# Altium footprint library Solder_Bridge_ Jumpers.PcbLib: 3 footprints
Each footprint in its own frame and in the unit in brackets; x right, y up, seen from the top. Pads: shape width x height; smd on the part's side, far side on the other; paste and mask are expansions set on the pad; w line width, h text height; cw(c..) or ccw(c..) is an arc to the next point about the centre after c.
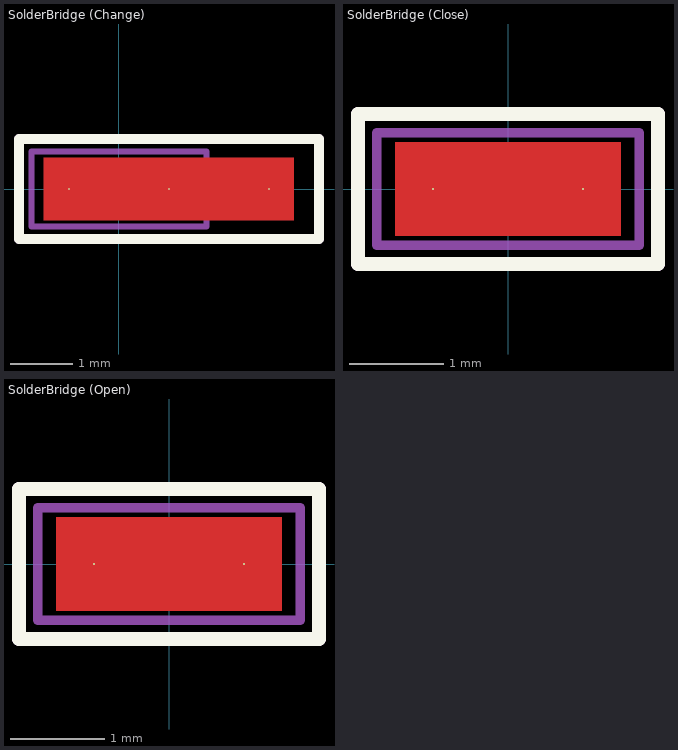
[diagram p0: the footprints below, top view; thin cyan lines are the x and y axes]

## SolderBridge (Change) [mil]
pads (3):
  round 1 smd: 1(-31.5,0) 2(31.5,0) 3(94.49,0)
Top Layer:
  pour cut-out: 3.94,-19.69 15.75,-19.69 -3.94,0 15.75,19.68 3.94,19.68 3.94,19.69 -15.75,0
  pour cut-out: 59.05,-19.68 47.24,-19.68 66.93,0 47.24,19.68 47.24,19.69 59.05,19.69 78.74,0
  region: 110.24,19.69 110.24,-19.69 59.06,-19.69 78.74,0 59.05,19.69
  region: 47.24,19.68 66.93,0 47.24,-19.69 15.75,-19.69 -3.94,0 15.75,19.68
  region: -47.24,19.69 -47.24,-19.69 3.94,-19.69 -15.75,0 3.94,19.69
Top Overlay:
  lines w6.02: -62.99,-31.49 125.99,-31.49 125.99,31.5 -62.99,31.5 -62.99,-31.49
Top Assembly:
  lines w3.94: -55.11,-23.62 55.12,-23.62 55.12,23.63 -55.11,23.63 -55.11,-23.62
Top Courtyard (Mech6):
  lines w6.02: -11.81,0 11.81,0 ; 0,-11.81 0,11.81 ; -62.99,-31.49 125.99,-31.49 125.99,31.5 -62.99,31.5 -62.99,-31.49

## SolderBridge (Close) [mil]
pads (2):
  round 1 smd: 1(-31.5,0) 2(31.5,0)
Top Layer:
  pour cut-out: 3.94,-19.69 15.75,-19.69 -3.94,0 15.75,19.68 3.94,19.68 3.94,19.69 -15.75,0
  region: -47.24,19.69 -47.24,-19.69 3.94,-19.69 -15.75,0 3.94,19.69
  region: 47.24,19.68 47.24,-19.69 15.75,-19.69 -3.94,0 15.75,19.68
Top Overlay:
  lines w6.02: -62.99,-31.5 -62.99,31.5 62.99,31.5 62.99,-31.5 -62.99,-31.5
Top Assembly:
  lines w3.94: -55.12,-23.62 55.12,-23.62 55.12,23.62 -55.12,23.62 -55.12,-23.62
  text "'.Designator'" at -178.42,-13.12 h31.5
Top Courtyard (Mech6):
  lines w6.02: -11.81,0 11.81,0 ; 0,-11.81 0,11.81 ; -62.99,-31.5 62.99,-31.5 62.99,31.5 -62.99,31.5 -62.99,-31.5
3D body "User Library-RES0603-3.step": height 17.72, standoff 0, extent -31.5,-15.75 31.5,15.75

## SolderBridge (Open) [mil]
pads (2):
  round 1 smd: 1(-31.5,0) 2(31.5,0)
Top Layer:
  pour cut-out: 3.94,-19.69 15.75,-19.69 -3.94,0 15.75,19.68 3.94,19.68 3.94,19.69 -15.75,0
  region: -47.24,19.69 -47.24,-19.69 3.94,-19.69 -15.75,0 3.94,19.69
  region: 47.24,19.68 47.24,-19.69 15.75,-19.69 -3.94,0 15.75,19.68
Top Overlay:
  lines w6.02: -62.99,-31.5 62.99,-31.5 62.99,31.5 -62.99,31.5 -62.99,-31.5
Top Assembly:
  lines w3.94: -55.12,-23.62 -55.12,23.62 55.12,23.62 55.12,-23.62 -55.12,-23.62
  text "'.Designator'" at -178.42,-13.12 h31.5
Top Courtyard (Mech6):
  lines w6.02: -11.81,0 11.81,0 ; 0,-11.81 0,11.81 ; -62.99,-31.5 -62.99,31.5 62.99,31.5 62.99,-31.5 -62.99,-31.5